# Altium schematic symbol library YAGEO-RC-Series.SchLib: 1 symbol
Pins are listed as number, name and electrical type; pins without a type are passive.

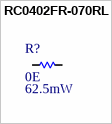
[diagram p0: symbol RC0402FR-070RL]

## RC0402FR-070RL
designator R?  value 0E  Value2: 62.5mW  (hidden comment: RC0402FR-070RL)
0 Ohms Jumper 0.063W, 1/16W Chip Resistor 0402 (1005 Metric) Moisture Resistant Thick Film; Type: RC0402FR-070RL
footprint RC0402_C (Chip Resistor, 2-Leads, Body 1.00x0.50mm, IPC High Density)
pins: 1, 2